# Altium schematic symbol library TERM-BLK-2X1.Schlib: 1 symbol
Pins are listed as number, name and electrical type; pins without a type are passive.

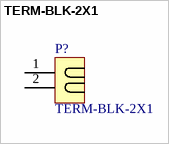
[diagram p0: symbol TERM-BLK-2X1]

## TERM-BLK-2X1
designator P?
Header, 2-Pin
pins: 1, 2